# Altium footprint library LM4040AELT25.PcbLib: 1 footprints
Each footprint in its own frame and in the unit in brackets; x right, y up, seen from the top. Pads: shape width x height; smd on the part's side, far side on the other; paste and mask are expansions set on the pad; w line width, h text height; cw(c..) or ccw(c..) is an arc to the next point about the centre after c.
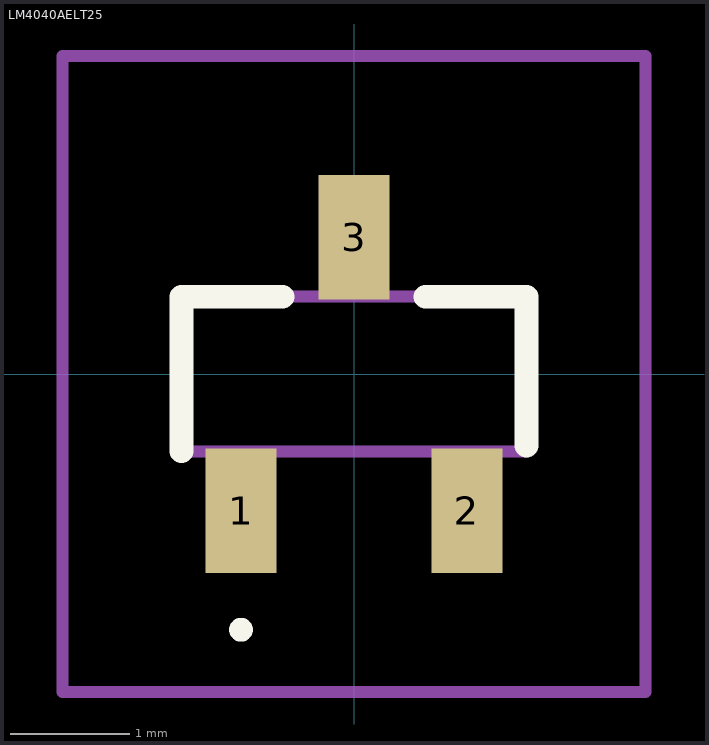
[diagram p0: the footprint, top view; thin cyan lines are the x and y axes]

## LM4040AELT25 [mm]
pads (3):
  rect 0.6x1.05 smd: 1(-0.95,-1.15) 2(0.95,-1.15) 3(0,1.15)
Top Overlay:
  lines w0.1: -0.95,-2.2 -0.95,-2.2 ; -0.95,-2.2 ccw(c-0.95,-2.15) -0.95,-2.1 ; -0.95,-2.2 cw(c-0.95,-2.15) -0.95,-2.1 ; -0.95,-2.1 -0.95,-2.1
  lines w0.2: -1.45,-0.65 -1.45,0.65 -0.6,0.65 ; 0.6,0.65 1.45,0.65 1.45,-0.6
Mechanical 15:
  lines w0.1: -1.45,-0.65 1.45,-0.65 1.45,0.65 -1.45,0.65 -1.45,-0.65
Mechanical 20:
  lines w0.1: -2.45,-2.675 2.45,-2.675 2.45,2.675 -2.45,2.675 -2.45,-2.675